# Altium schematic symbol library Diodes.SchLib: 31 symbols
Pins are listed as number, name and electrical type; pins without a type are passive.

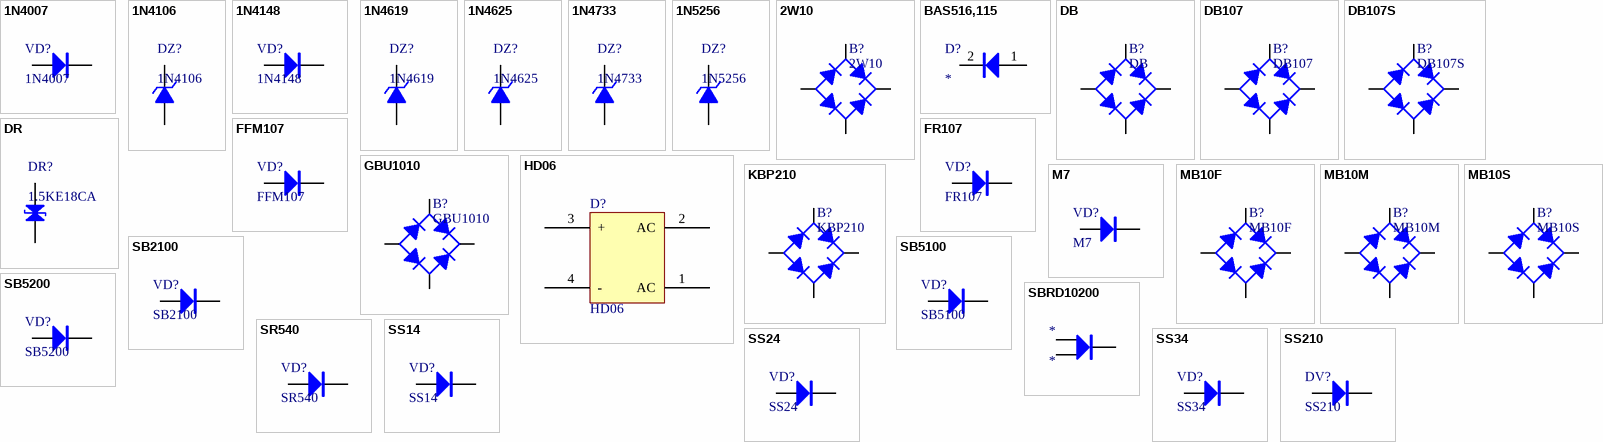
[diagram p0: symbols 1N4007 to SS210]

## 1N4007
designator VD?
整流二极管; 版权归属: 黎明电子style; BOM名称: 整流二极管; 学习资源: https://lmdzstyle.taobao.com/
footprint DO-41 (2.6*9.1mm(直径，脚距）)
footprint SOD-123 (2.7x1.6X1.1mm（长宽高，不包括引脚）)
footprint SMA (4.5x2.6*2.2mm（长宽高，不包括引脚）)
footprint DO-41V (2.6*3.5mm(直径，脚距）)
pins: 1 A, 2 K

## 1N4106
designator DZ?
12V/0.5W稳压管; 版权归属: 黎明电子style; BOM名称: 12V/0.5W稳压管; 学习资源: https://lmdzstyle.taobao.com/
footprint DO-35 (1.8*6.8mm(直径，脚距）)
footprint DO-213AA (1.5*3.5mm(直径，脚距）)
footprint DO-35V (1.8*2.5mm(直径，脚距）)
pins: 1 A, 2 K

## 1N4148
designator VD?
高速开关二极管; 版权归属: 黎明电子style; BOM名称: 高速开关二极管; 学习资源: https://lmdzstyle.taobao.com/
footprint DO-35 (1.8*6.8mm(直径，脚距）)
footprint MINI_MELF (LL34) (1.5*3.4mm(直径，脚距）)
footprint SOD-323 (1.8x1.3X0.9mm（长宽高，不包括引脚）)
footprint DO-35V (1.8*2.5mm(直径，脚距）)
pins: 1 A, 2 K

## 1N4619
designator DZ?
3V/0.5W稳压管; 版权归属: 黎明电子style; BOM名称: 3V/0.5W稳压管; 学习资源: https://lmdzstyle.taobao.com/
footprint DO-35 (1.8*6.8mm(直径，脚距）)
footprint MINI_MELF (LL34) (1.5*3.4mm(直径，脚距）)
footprint DO-35V (1.8*2.5mm(直径，脚距）)
pins: 1 A, 2 K

## 1N4625
designator DZ?
5.1V/0.5W稳压管; 版权归属: 黎明电子style; BOM名称: 5.1V/0.5W稳压管; 学习资源: https://lmdzstyle.taobao.com/
footprint DO-35 (1.8*6.8mm(直径，脚距）)
footprint MINI_MELF (LL34) (1.5*3.4mm(直径，脚距）)
footprint DO-35V (1.8*2.5mm(直径，脚距）)
pins: 1 A, 2 K

## 1N4733
designator DZ?
5.1V/1W稳压管; 版权归属: 黎明电子style; BOM名称: 5.1V/1W稳压管; 学习资源: https://lmdzstyle.taobao.com/
footprint DO-41 (2.6*9.1mm(直径，脚距）)
footprint MELF (LL41) (2.4*5.3mm(直径，脚距）)
footprint DO-41V (2.6*3.5mm(直径，脚距）)
footprint SMA (4.5x2.6*2.2mm（长宽高，不包括引脚）)
pins: 1 A, 2 K

## 1N5256
designator DZ?
30V/0.5W稳压管; 版权归属: 黎明电子style; BOM名称: 30V/0.5W稳压管; 学习资源: https://lmdzstyle.taobao.com/
footprint DO-35 (1.8*6.8mm(直径，脚距）)
footprint DO-213AA (1.5*3.5mm(直径，脚距）)
footprint DO-35V (1.8*2.5mm(直径，脚距）)
pins: 1 A, 2 K

## 2W10
designator B?
1KV/2A整流桥; 版权归属: 黎明电子style; BOM名称: 1KV/2A整流桥; 学习资源: https://lmdzstyle.taobao.com/
footprint RB-20 (8.9*3.5mm(直径，高))
pins: AC1, AC2, DC+, DC-

## BAS516,115
designator D?
Diode; Manufacturer_Name: Nexperia; Manufacturer_Part_Number: BAS516,115; Datasheet Link: http://www.mouser.com/ds/2/302/BAS16_SER-839896.pdf; Height: 0.65mm; Mouser Part Number: 771-BAS516-T/R; Mouser Price/Stock: https://www.mouser.com/Search/Refine.aspx?Keyword=771-BAS516-T%2FR; RS Part Number: 0508282; RS Price/Stock: http://uk.rs-online.com/web/p/products/0508282
footprint SOD-523 (1.2x0.8X0.6mm（长宽高，不包括引脚）)
pins: 1, 2

## DB
designator B?
整流桥; 版权归属: 黎明电子style; BOM名称: 整流桥; 学习资源: https://lmdzstyle.taobao.com/
footprint DB (8.5*7.6*3mm(长宽高))
footprint BR3 (18*7.1mm(宽高))
footprint BR8 (16*8mm(宽高))
footprint DBS (8.5*10.1*3mm(长宽高))
footprint GBP (14.2*2.9*10.5mm(长宽高))
footprint GBU (整流桥，脚距：5mm/200mil)
footprint KBP (14.7*4.8*12.2mm(长宽高))
footprint MBF (4.7*7*1.5mm(长宽高))
footprint MBM (4.8*5.2*2.5mm(长宽高))
footprint MBS (4.1*6.8*2.5mm(长宽高))
footprint RB-15 (8.9*3.5mm(直径，高))
footprint RB-20 (8.9*3.5mm(直径，高))
footprint WOM (8.1*5.1mm(直径，高))
pins: AC1, AC2, DC+, DC-

## DB107
designator B?
700V/1A整流桥; 版权归属: 黎明电子style; BOM名称: 700V/1A整流桥; 学习资源: https://lmdzstyle.taobao.com/
footprint DB (8.5*7.6*3mm(长宽高))
pins: AC1, AC2, DC+, DC-

## DB107S
designator B?
700V/1A整流桥; 版权归属: 黎明电子style; BOM名称: 700V/1A整流桥; 学习资源: https://lmdzstyle.taobao.com/
footprint DBS (8.5*10.1*3mm(长宽高))
pins: AC1, AC2, DC+, DC-

## DR
designator DR?, comment 1.5KE18CA
瞬态电压抑制二极管; 版权归属: 黎明电子style; BOM名称: 瞬态电压抑制二极管; 学习资源: https://lmdzstyle.taobao.com/
footprint DO-15 (3.3*10.3mm(直径，脚距）)
pins: 1 A, 2 K

## FFM107
designator VD?
快恢复整流二极管; BOM名称: 快恢复二极管; 版权归属: 黎明电子style; 学习资源: https://lmdzstyle.taobao.com/
footprint SOD-123F
pins: 1 A, 2 K

## FR107
designator VD?
快恢复整流二极管; BOM名称: 快恢复二极管; 版权归属: 黎明电子style; 属性: 700V/1A; 学习资源: https://lmdzstyle.taobao.com/
footprint DO-41 (2.6*9.1mm(直径，脚距）)
footprint DO-41V (2.6*3.5mm(直径，脚距）)
pins: 1 A, 2 K

## GBU1010
designator B?
1KV/10A整流桥; 版权归属: 黎明电子style; BOM名称: 1KV/10A整流桥; 学习资源: https://lmdzstyle.taobao.com/
footprint GBU (整流桥，脚距：5mm/200mil)
pins: AC1, AC2, DC+, DC-

## HD06
designator D?
整流桥
footprint MBS (4.1*6.8*2.5mm(长宽高)); pin to pad 1>AC1 2>AC2 3>DC+ 4>DC-
pins: 1 AC, 2 AC, 3 +, 4 -

## KBP210
designator B?
1KV/2A整流桥; 版权归属: 黎明电子style; BOM名称: 1KV/2A整流桥; 学习资源: https://lmdzstyle.taobao.com/
footprint KBP (14.7*4.8*12.2mm(长宽高))
pins: AC1, AC2, DC+, DC-

## M7
designator VD?
整流二极管; 版权归属: 黎明电子style; BOM名称: 整流二极管; 学习资源: https://lmdzstyle.taobao.com/
footprint SMA (4.5x2.6*2.2mm（长宽高，不包括引脚）)
pins: 1 A, 2 K

## MB10F
designator B?
1KV/0.8A整流桥; 版权归属: 黎明电子style; BOM名称: 1KV/0.8A整流桥; 学习资源: https://lmdzstyle.taobao.com/
footprint MBF (4.7*7*1.5mm(长宽高))
pins: AC1, AC2, DC+, DC-

## MB10M
designator B?
1KV/0.8A整流桥; 版权归属: 黎明电子style; BOM名称: 1KV/0.8A整流桥; 学习资源: https://lmdzstyle.taobao.com/
footprint MBM (4.8*5.2*2.5mm(长宽高))
pins: AC1, AC2, DC+, DC-

## MB10S
designator B?
1KV/0.8A整流桥; 版权归属: 黎明电子style; BOM名称: 1KV/0.8A整流桥; 学习资源: https://lmdzstyle.taobao.com/
footprint MBS (4.1*6.8*2.5mm(长宽高))
pins: AC1, AC2, DC+, DC-

## SB2100
designator VD?
肖特基二极管; BOM名称: 整流二极管; 版权归属: 黎明电子style; 属性: 100V  2A; 学习资源: https://lmdzstyle.taobao.com/
footprint DO-15 (3.3*10.3mm(直径，脚距）)
footprint DO-15V (3.3*4mm(直径，脚距）)
pins: 1 A, 2 K

## SB5100
designator VD?
肖特基二极管; BOM名称: 整流二极管; 版权归属: 黎明电子style; 属性: 100V  5A; 学习资源: https://lmdzstyle.taobao.com/
footprint DO-201AD (5.2*15.2mm(直径，脚距）)
footprint DO-201ADV (5.2*5.5mm(直径，脚距）)
pins: 1 A, 2 K

## SB5200
designator VD?
肖特基二极管; BOM名称: 整流二极管; 版权归属: 黎明电子style; 属性: 200V  5A; 学习资源: https://lmdzstyle.taobao.com/
footprint DO-201AD (5.2*15.2mm(直径，脚距）)
footprint DO-201ADV (5.2*5.5mm(直径，脚距）)
pins: 1 A, 2 K

## SBRD10200
designator *
footprint D2PAK
pins: 1 A, 2 A, 3 K

## SR540
designator VD?
肖特基二极管; BOM名称: 整流二极管; 版权归属: 黎明电子style; 属性: 40V  5A; 学习资源: https://lmdzstyle.taobao.com/
footprint DO-27 (5.2*14.9mm(直径，脚距）)
footprint DO-27V (5.2*5.5mm(直径，脚距）)
pins: 1 A, 2 K

## SS14
designator VD?
肖特基二极管; 版权归属: 黎明电子style; 属性: 40V/1A; BOM名称: 肖特基二极管; 学习资源: https://lmdzstyle.taobao.com/
footprint SMA (4.5x2.6*2.2mm（长宽高，不包括引脚）)
pins: 1 A, 2 K

## SS24
designator VD?
肖特基二极管; 版权归属: 黎明电子style; 属性: 40V/2A; BOM名称: 肖特基二极管; 学习资源: https://lmdzstyle.taobao.com/
footprint SMB (4.7*3.9*2.2mm(长宽高，不包括引脚）)
pins: 1 A, 2 K

## SS34
designator VD?
肖特基二极管; 版权归属: 黎明电子style; 属性: 40V/3A; BOM名称: 肖特基二极管; 学习资源: https://lmdzstyle.taobao.com/
footprint SMC (7.1x5.9*2.3mm（长宽高，不包括引脚）)
pins: 1 A, 2 K

## SS210
designator DV?
肖特基二极管; 版权归属: 黎明电子style; BOM名称: 肖特基二极管; 学习资源: https://lmdzstyle.taobao.com/
footprint SMA (4.5x2.6*2.2mm（长宽高，不包括引脚）)
pins: 1 A, 2 K